# Altium schematic symbol library Schlib1.SchLib: 2 symbols
Pins are listed as number, name and electrical type; pins without a type are passive.

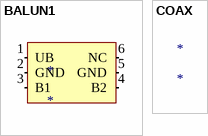
[diagram p0: symbols BALUN1 to COAX]

## BALUN1
designator *
pins: 1 UB (out), 2 GND (in), 3 B1 (in), 4 B2 (in), 5 GND (in), 6 NC (in)

## COAX
designator *